# Altium schematic symbol library MAX77859AEWO.SchLib: 1 symbol
Pins are listed as number, name and electrical type; pins without a type are passive.

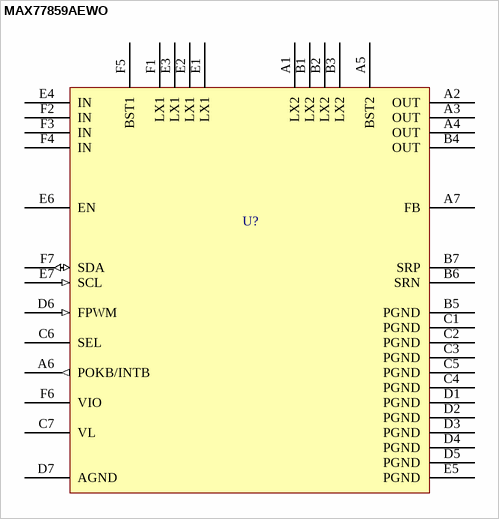
[diagram p0: symbol MAX77859AEWO]

## MAX77859AEWO
designator U?
2.5V to 22V Input, 7.8A Switching Buck-Boost Converter
pins: A1 LX2 (power), A2 OUT (power), A3 OUT (power), A4 OUT (power), A5 BST2 (power), A6 POKB/INTB (out), A7 FB, B1 LX2 (power), B2 LX2 (power), B3 LX2 (power), B4 OUT (power), B5 PGND (power), B6 SRN, B7 SRP, C1 PGND (power), C2 PGND (power), C3 PGND (power), C4 PGND (power), C5 PGND (power), C6 SEL, C7 VL, D1 PGND (power), D2 PGND (power), D3 PGND (power), D4 PGND (power), D5 PGND (power), D6 FPWM (in), D7 AGND (power), E1 LX1 (power), E2 LX1 (power), E3 LX1 (power), E4 IN (power), E5 PGND (power), E6 EN, E7 SCL (in), F1 LX1 (power), F2 IN (power), F3 IN (power), F4 IN (power), F5 BST1 (power), F6 VIO, F7 SDA (io)